# EAGLE library part 18F4550 (library -redpic-microchip-pic)
Microchip PIC 18F4550 with FS-USB
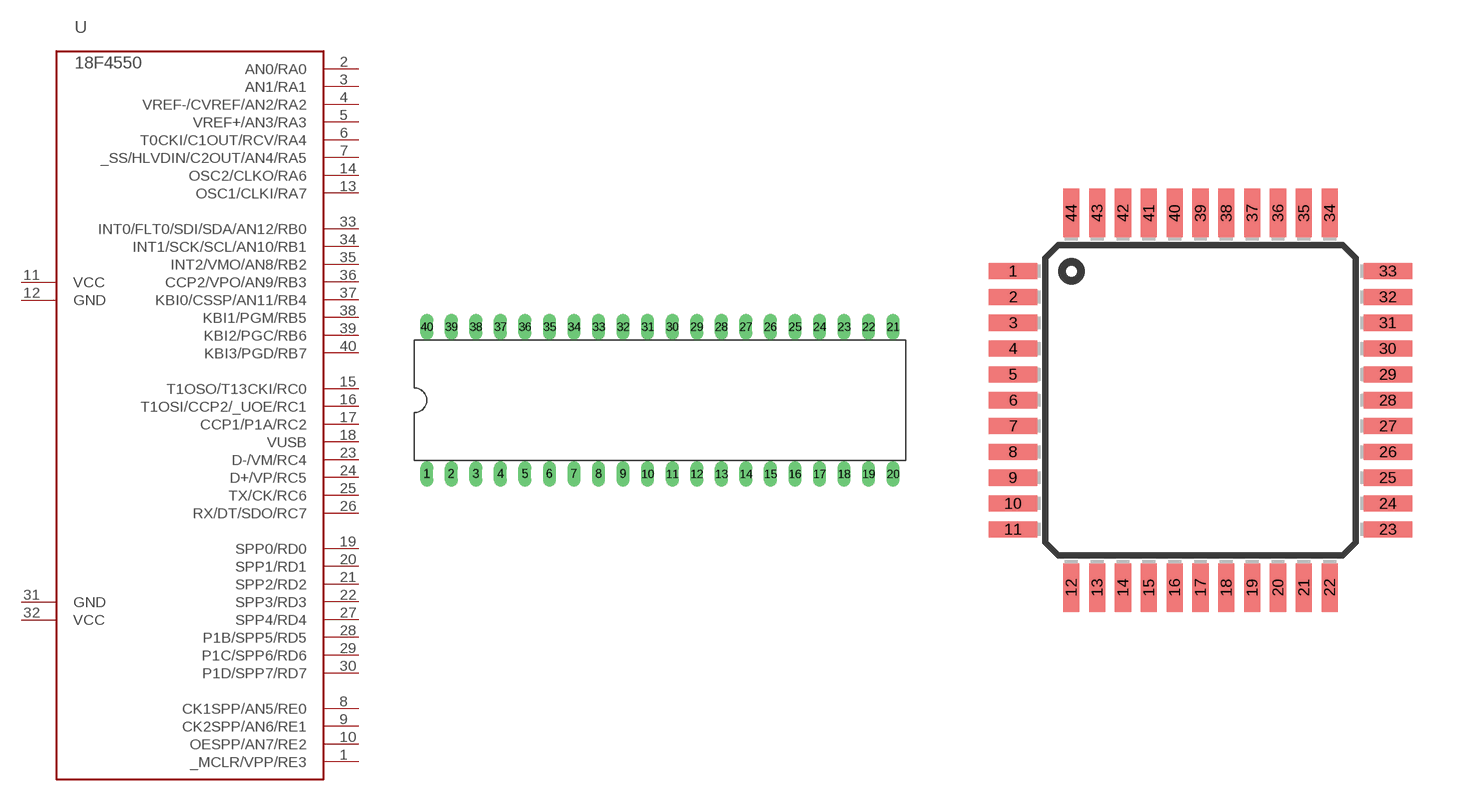
[diagram p5: symbol with the pads of DIL40; footprints DIL40, TQFP44]

Designator prefix -

## 18F4550F-I/P, 18F4550LF-I/P  [DIL40]
1  _MCLR/VPP/RE3  in
2  AN0/RA0
3  AN1/RA1
4  VREF-/CVREF/AN2/RA2
5  VREF+/AN3/RA3
6  T0CKI/C1OUT/RCV/RA4
7  _SS/HLVDIN/C2OUT/AN4/RA5
8  CK1SPP/AN5/RE0
9  CK2SPP/AN6/RE1
10  OESPP/AN7/RE2
11  VCC  pwr
12  GND  pwr
13  OSC1/CLKI/RA7
14  OSC2/CLKO/RA6
15  T1OSO/T13CKI/RC0
16  T1OSI/CCP2/_UOE/RC1
17  CCP1/P1A/RC2
18  VUSB
19  SPP0/RD0
20  SPP1/RD1
21  SPP2/RD2
22  SPP3/RD3
23  D-/VM/RC4
24  D+/VP/RC5
25  TX/CK/RC6
26  RX/DT/SDO/RC7
27  SPP4/RD4
28  P1B/SPP5/RD5
29  P1C/SPP6/RD6
30  P1D/SPP7/RD7
31  GND  pwr
32  VCC  pwr
33  INT0/FLT0/SDI/SDA/AN12/RB0
34  INT1/SCK/SCL/AN10/RB1
35  INT2/VMO/AN8/RB2
36  CCP2/VPO/AN9/RB3
37  KBI0/CSSP/AN11/RB4
38  KBI1/PGM/RB5
39  KBI2/PGC/RB6
40  KBI3/PGD/RB7

## 18F4550F-I/PT, 18F4550LF-I/PT  [TQFP44]
1  RX/DT/SDO/RC7
2  SPP4/RD4
3  P1B/SPP5/RD5
4  P1C/SPP6/RD6
5  P1D/SPP7/RD7
6  GND  pwr
7  VCC  pwr
8  INT0/FLT0/SDI/SDA/AN12/RB0
9  INT1/SCK/SCL/AN10/RB1
10  INT2/VMO/AN8/RB2
11  CCP2/VPO/AN9/RB3
14  KBI0/CSSP/AN11/RB4
15  KBI1/PGM/RB5
16  KBI2/PGC/RB6
17  KBI3/PGD/RB7
18  _MCLR/VPP/RE3  in
19  AN0/RA0
20  AN1/RA1
21  VREF-/CVREF/AN2/RA2
22  VREF+/AN3/RA3
23  T0CKI/C1OUT/RCV/RA4
24  _SS/HLVDIN/C2OUT/AN4/RA5
25  CK1SPP/AN5/RE0
26  CK2SPP/AN6/RE1
27  OESPP/AN7/RE2
28  VCC  pwr
29  GND  pwr
30  OSC1/CLKI/RA7
31  OSC2/CLKO/RA6
32  T1OSO/T13CKI/RC0
35  T1OSI/CCP2/_UOE/RC1
36  CCP1/P1A/RC2
37  VUSB
38  SPP0/RD0
39  SPP1/RD1
40  SPP2/RD2
41  SPP3/RD3
42  D-/VM/RC4
43  D+/VP/RC5
44  TX/CK/RC6

## Footprint DIL40 (pad centres in mm)
Dual In Line package type P
drill 0.813 long: 1 -24.13,-7.62; 2 -21.59,-7.62; 3 -19.05,-7.62; 4 -16.51,-7.62; 5 -13.97,-7.62; 6 -11.43,-7.62; 7 -8.89,-7.62; 8 -6.35,-7.62; 9 -3.81,-7.62; 10 -1.27,-7.62; 11 1.27,-7.62; 12 3.81,-7.62; 13 6.35,-7.62; 14 8.89,-7.62; 15 11.43,-7.62; 16 13.97,-7.62; 17 16.51,-7.62; 18 19.05,-7.62; 19 21.59,-7.62; 20 24.13,-7.62; 21 24.13,7.62; 22 21.59,7.62; 23 19.05,7.62; 24 16.51,7.62; 25 13.97,7.62; 26 11.43,7.62; 27 8.89,7.62; 28 6.35,7.62; 29 3.81,7.62; 30 1.27,7.62; 31 -1.27,7.62; 32 -3.81,7.62; 33 -6.35,7.62; 34 -8.89,7.62; 35 -11.43,7.62; 36 -13.97,7.62; 37 -16.51,7.62; 38 -19.05,7.62; 39 -21.59,7.62; 40 -24.13,7.62

## Footprint TQFP44 (pad centres in mm)
Thin Quad Flat Pack package type TQ
smd 1.5 x 0.5: 1 -5.8,4; 2 -5.8,3.2; 3 -5.8,2.4; 4 -5.8,1.6; 5 -5.8,0.8; 6 -5.8,0; 7 -5.8,-0.8; 8 -5.8,-1.6; 9 -5.8,-2.4; 10 -5.8,-3.2; 11 -5.8,-4; 23 5.8,-4; 24 5.8,-3.2; 25 5.8,-2.4; 26 5.8,-1.6; 27 5.8,-0.8; 28 5.8,0; 29 5.8,0.8; 30 5.8,1.6; 31 5.8,2.4; 32 5.8,3.2; 33 5.8,4
smd 0.5 x 1.5: 12 -4,-5.8; 13 -3.2,-5.8; 14 -2.4,-5.8; 15 -1.6,-5.8; 16 -0.8,-5.8; 17 0,-5.8; 18 0.8,-5.8; 19 1.6,-5.8; 20 2.4,-5.8; 21 3.2,-5.8; 22 4,-5.8; 34 4,5.8; 35 3.2,5.8; 36 2.4,5.8; 37 1.6,5.8; 38 0.8,5.8; 39 0,5.8; 40 -0.8,5.8; 41 -1.6,5.8; 42 -2.4,5.8; 43 -3.2,5.8; 44 -4,5.8